# EAGLE library part VCNL4010 (library vishay)
Fully Integrated Proximity and Ambient Light Sensor with Infrared Emitter, I2C Interface, and Interrupt Function The VCNL4010 is a fully integrated proximity and ambient light sensor. Fully integrated means that the infrared emitter is included in the package. It has 16 bit resolution. It includes a signal processing IC and features standard I2C communication interface. It features an interrupt function. http://www.vishay.com/docs/83462/vcnl4010.pdf
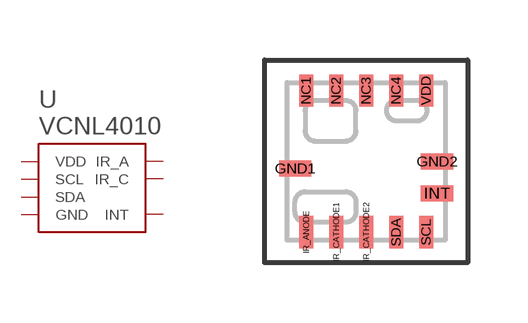
[diagram p0: symbol with the pads of VCNL4010; footprint VCNL4010]

Designator prefix U

## VCNL4010  [VCNL4010]
GND1  GND
GND2  GND
INT  INT
IR_ANODE  IR_A
IR_CATHODE1  IR_C
IR_CATHODE2  IR_C
SCL  SCL
SDA  SDA
VDD  VDD

## Footprint VCNL4010 (pad centres in mm)
smd 0.805 x 0.4: GND1 -1.772,-0.175; GND2 1.772,0; INT 1.772,-0.8
smd 0.35 x 0.805: IR_ANODE -1.5,-1.772; IR_CATHODE1 -0.75,-1.772; IR_CATHODE2 0,-1.772; NC1 -1.5,1.772; NC2 -0.75,1.772; NC3 0,1.772; NC4 0.75,1.772; SCL 1.5,-1.772; SDA 0.75,-1.772; VDD 1.5,1.772